# Altium footprint library W25Q32JVZPIQ.PcbLib: 1 footprints
Each footprint in its own frame and in the unit in brackets; x right, y up, seen from the top. Pads: shape width x height; smd on the part's side, far side on the other; paste and mask are expansions set on the pad; w line width, h text height; cw(c..) or ccw(c..) is an arc to the next point about the centre after c.
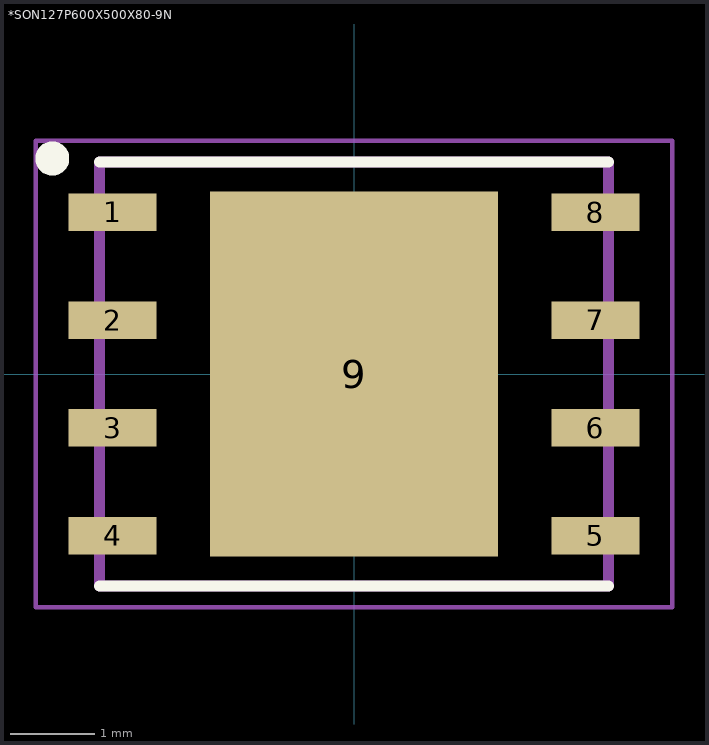
[diagram p0: the footprint, top view; thin cyan lines are the x and y axes]

## *SON127P600X500X80-9N [mm]
pads (9):
  rect 1.04x0.44 smd: 1(-2.845,1.905) 2(-2.845,0.635) 3(-2.845,-0.635) 4(-2.845,-1.905) 5(2.845,-1.905) 6(2.845,-0.635) 7(2.845,0.635) 8(2.845,1.905)
  rect 3.4x4.3 smd: 9(0,0)
Top Overlay:
  circle w0.2: c-3.556,2.54 r0.1
  lines w0.127: -3,-2.5 3,-2.5 ; -3,2.5 3,2.5
Top Paste:
  region: -1.076,1.36 1.075,1.36 1.075,-1.361 -1.076,-1.361
Mechanical 4:
  lines w0.127: -3,-2.5 -3,2.5 ; -3,-2.5 3,-2.5 ; -3,-2.5 -3,2.5 ; -3,-2.5 3,-2.5 ; -3,2.5 3,2.5 ; -3,2.5 3,2.5 ; 3,-2.5 3,2.5 ; 3,-2.5 3,2.5
Mechanical 16:
  lines w0.05: -3.75,-2.75 -3.75,2.75 3.75,2.75 3.75,-2.75 -3.75,-2.75
3D body "8WSON.STEP": height 0.81, standoff 0.01, extent -3,-2.5 3,2.5